# Altium schematic symbol library hc_module_esp32_dan.SCHLIB: 22 symbols
Pins are listed as number, name and electrical type; pins without a type are passive.

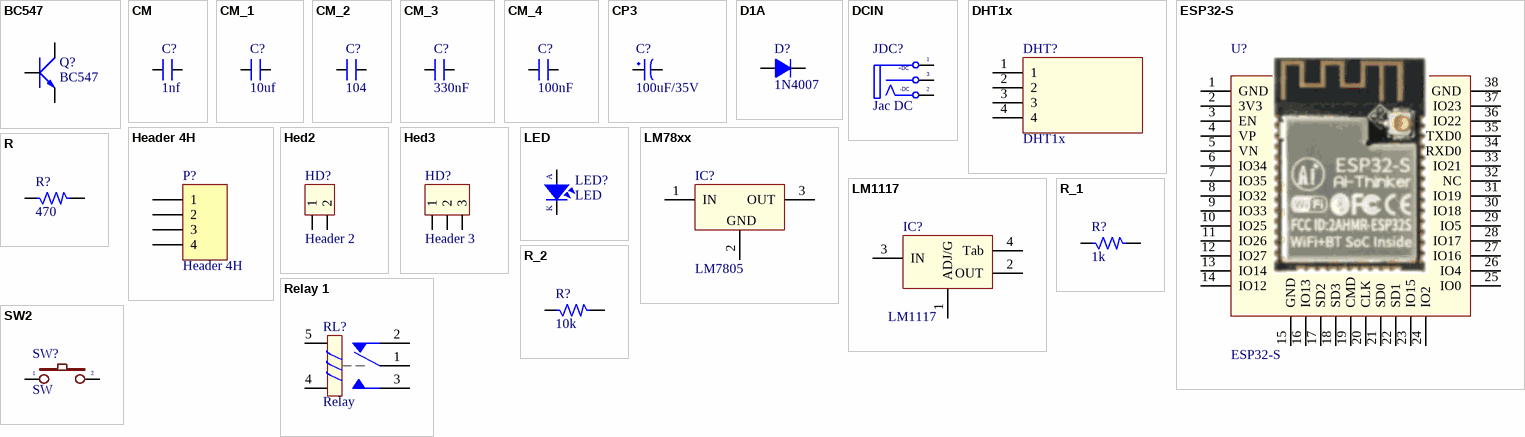
[diagram p0: symbols BC547 to SW2]

## BC547
designator Q?
P 600mW, CBE; Value: BC547
footprint QTO-92 (TO-92)
pins: 1 C, 2 B, 3 E

## CM
designator C?, comment 1nf
Cap SMD; Value: 103
footprint CM-0805 (Capacitor SMD 80x50mil)
footprint CM-1206 (Capacitor SMD 120x60mil)
pins: 1, 2

## CM_1
designator C?, comment 10uf
Cap SMD; Value: 103
footprint CM-0805 (Capacitor SMD 80x50mil)
footprint CM-1206 (Capacitor SMD 120x60mil)
pins: 1, 2

## CM_2
designator C?, comment 104
Cap SMD; Value: 103
footprint CM-0805 (Capacitor SMD 80x50mil)
footprint CM-1206 (Capacitor SMD 120x60mil)
pins: 1, 2

## CM_3
designator C?, comment 330nF
Cap SMD; Value: 103
footprint CM-0805 (Capacitor SMD 80x50mil)
footprint CM-1206 (Capacitor SMD 120x60mil)
pins: 1, 2

## CM_4
designator C?, comment 100nF
Cap SMD; Value: 103
footprint CM-0805 (Capacitor SMD 80x50mil)
footprint CM-1206 (Capacitor SMD 120x60mil)
pins: 1, 2

## CP3
designator C?, comment 100uF/35V
Cap 100uF/35V - 470uF/16V; Value: 100uF/35V/50V; Description 1: 1000uF/6,3V - 470uF/16V - 330uF - 25V; Description 2: 220uF/35V - 100uF/50V - 63V - 4,7uF/200V; Description 3: 22uF => 33uF100V - 3,3uF => 4,7uF/250V; Description 4: 2,2uF =>3,3uF/350 - 2,2uF/400V - 1uF/450V
footprint CP1.5/3.4 (Tu hoa 220->470uF,16V, 470uF/16V,25V)
pins: 1, 2

## D1A
designator D?, comment 1N4007
Diode 1A; Value: 1N4007
footprint D1A (Diode 1A, W 100mil, L 350mil)
footprint D2A (Diode 2A, W 150mil, L 450mil)
footprint DO-214AC (DO-214AC, M7)
footprint SM-DIODE (Magnetic-Core Inductor with Winding Polarity Marking; 2 Leads)
footprint D-0805 SOD323 (Resistor SMD 80x50mil)
footprint D-1206 SOD123 (Resistor SMD 120x60mil)
pins: 1 A, 2 K

## DCIN
designator JDC?, comment Jac DC
Jac DC input; Value: Jac DC
footprint DC-IN (Footprint not found)
pins: 1 +DC "Tip", 2 TN "Tip Normal (Break Contact)", 3 S (power) "Sleeve (Ground)"
text: -DC

## DHT1x
designator DHT?
Humidity and Temperature Sensor
footprint jp4 (Jumper 4)
pins: 1, 2, 3, 4

## ESP32-S
designator U?
footprint ESP-32S (Footprint for ESP-32S)
footprint ESP-32WR (Footprint for ESP-32WROOM)
pins: 1 GND, 2 3V3, 3 EN, 4 VP, 5 VN, 6 IO34, 7 IO35, 8 IO32, 9 IO33, 10 IO25, 11 IO26, 12 IO27, 13 IO14, 14 IO12, 15 GND, 16 IO13, 17 SD2, 18 SD3, 19 CMD, 20 CLK, 21 SD0, 22 SD1, 23 IO15, 24 IO2, 25 IO0, 26 IO4, 27 IO16, 28 IO17, 29 IO5, 30 IO18, 31 IO19, 32 NC, 33 IO21, 34 RXD0, 35 TXD0, 36 IO22, 37 IO23, 38 GND

## Header 4H
designator P?
Header, 4-Pin, Right Angle; LatestRevisionDate: 17-Jul-2002; LatestRevisionNote: Re-released for DXP Platform.; Publisher: Altium Limited
footprint HDR1X4H (Connector; Header; 4 Position; Right Angle)
signal-integrity model Connector
pins: 1, 2, 3, 4

## Hed2
designator HD?, comment Header 2
Header 2 (Green); Value: Header 2
footprint HED2 (Header 2, 2 pin, hight 300mil, Pin to Pin 200)
footprint HED2T (Header 2, 2 pin, hight 300mil)
footprint HED2B (Header 2, 2 pin, hight 300mil, Pin to Pin 150)
footprint KF8500-2P (Footprint not found)
footprint KF127-2P (Header 2, 2 pin, hight 300mil, Pin to Pin 200, Colour Green)
footprint KF103-2P (Header 2, 2 pin, hight 600mil, Pin 5mm, Colour Green)
pins: 1, 2

## Hed3
designator HD?, comment Header 3
Header 3 (Green); Value: Header 3
footprint HED3 (Header 3, 3 pin, hight 300mil, Pin to Pin 200, Colour Green)
footprint HED3T (Header 3, 3 pin, hight 300mil)
footprint HED3B (Header 3, 3 pin, hight 300mil, Pin to Pin 150)
footprint KF8500-3P (Footprint not found)
footprint KF127-3P (Header 3, 3 pin, hight 300mil, Pin to Pin 200, Colour Green)
footprint KF103-3P (Header 3, 3 pin, hight 600mil, Pin 5mm, Colour Green)
pins: 1, 2, 3

## LED
designator LED?
LED Single colour Green and Red; Value: LED 3 ly Single Colour
footprint LED-3 (LED 2 PIN, 3ly Only colour)
footprint LED-5 (LED 2 PIN, 5 ly , Only colour)
footprint LED-V (LED 2 PIN, Rectang Only colour)
footprint LED-O (LED 2 PIN,  Ovan Only colour)
footprint LED-5R (LED 2 PIN, 5 ly , Only colour, pin to pin 110mil)
footprint LED-5G (LED 2 PIN, 5 ly , Only colour,pin to pin 100mil)
footprint LED_SMD
footprint LED-0805 (Resistor SMD 80x50mil)
footprint LED0603
pins: 1 A, 2 K

## LM78xx
designator IC?, comment LM7805
On ap +, from + 5 to + 24VDC; Value: LM7805
footprint QTO-220 (TO-220 - 1-2-3)
footprint QTO-92 (TO-92)
footprint QTO-220H1 (TO-220 - 1-2-3)
footprint QTO-252
pins: 1 IN, 2 GND, 3 OUT

## LM1117
designator IC?
3v3; Value: LM317
footprint SOT223-4N (SOT223, 4-Leads, Body 6.5x3.5mm, Pitch 2.3mm, Lead Span 7mm, IPC Medium Density)
pins: 1 ADJ/G, 2 OUT, 3 IN, 4 Tab

## R
designator R?, comment 470
Resistor 1/4W; Value: R1/4W - 1K
footprint RM-0805 (Resistor SMD 80x50mil)
footprint R1/8W (R 1/8W, 2 pin, 300mil)
footprint R1/4W (R 1/4W, 2 Pin, 350mil)
footprint R1/4WD (R 1/4W, 2 Pin, 150mil)
footprint RM-1206 (Resistor SMD 120x60mil)
pins: 1, 2

## R_1
designator R?, comment 1k
Resistor 1/4W; Value: R1/4W - 1K
footprint RM-0805 (Resistor SMD 80x50mil)
footprint R1/8W (R 1/8W, 2 pin, 300mil)
footprint R1/4W (R 1/4W, 2 Pin, 350mil)
footprint R1/4WD (R 1/4W, 2 Pin, 150mil)
footprint RM-1206 (Resistor SMD 120x60mil)
pins: 1, 2

## R_2
designator R?, comment 10k
Resistor 1/4W; Value: R1/4W - 1K
footprint RM-0805 (Resistor SMD 80x50mil)
footprint R1/8W (R 1/8W, 2 pin, 300mil)
footprint R1/4W (R 1/4W, 2 Pin, 350mil)
footprint R1/4WD (R 1/4W, 2 Pin, 150mil)
footprint RM-1206 (Resistor SMD 120x60mil)
pins: 1, 2

## Relay 1
designator RL?, comment Relay
Relay SPDT 5 Pin; Value: Relay SPDT, 10A, 12V
footprint RL_SPDT_10A (Relay SPDT, 5 pin, 10A,W 650mil, L 800mil, H 800mil)
footprint RL_JQX-30F(T91) (Relay SPDT, 5 pin, 30A,W 32.1mm, L 26.9mil, H 28.0mil)
footprint RL_SLA_30A-5(T90) (Relay SPDT, 5 pin, 30A,W 650mil, L 800mil, H 800mil)
footprint Relay JQX-14FC-5 (Relay 1DPDT, 5 pin, 5A)
footprint Relay HK23F (HK23F W12.5x7.5x10.3mm)
footprint Realy G6RN-1 (Realy G6RN 8A)
pins: 1, 2, 3, 4, 5

## SW2
designator SW?, comment SW
Switch button 2 pin; Value: SW chip 2 pin
footprint SW2 (SW button 2pin, 250x 250 mil)
footprint SW4_SMD (SW button 4pin, 250 x250 mil)
footprint SW-SMD3*6 (SW-SMD3*6*2.5)
pins: 1, 2